# EAGLE library part DC-DC-MDL1 (library mylib)
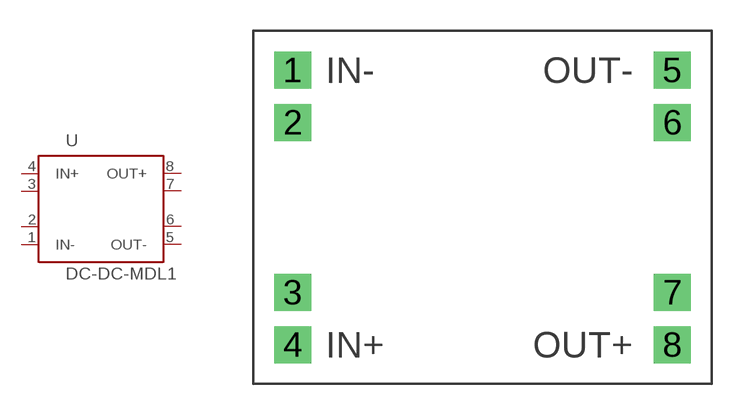
[diagram p23: symbol with the pads of DC-DC-MDL1; footprint DC-DC-MDL1]

Designator prefix -

## DC-DC-MDL1  [DC-DC-MDL1]
1  IN-
2  IN-1
3  IN+1
4  IN+
5  OUT-
6  OUT-1
7  OUT+1
8  OUT+

## Footprint DC-DC-MDL1 (pad centres in mm)
drill 1.2 square: 1 -9.207,6.668; 2 -9.207,4.128; 3 -9.207,-4.128; 4 -9.207,-6.668; 5 9.207,6.668; 6 9.207,4.128; 7 9.207,-4.128; 8 9.207,-6.668